# Altium schematic symbol library Molex_0705430037.SchLib: 1 symbol
Pins are listed as number, name and electrical type; pins without a type are passive.

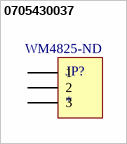
[diagram p0: symbol 0705430037]

## 0705430037
designator JP?  Supplier Part Number 1: WM4825-ND
Supplier 1: Digi-Key
footprint Molex_0705430037
pins: 1, 2, 3